# Altium footprint library Micius.PcbLib: 19 footprints (part 2 of 2)
Each footprint in its own frame and in the unit in brackets; x right, y up, seen from the top. Pads: shape width x height; smd on the part's side, far side on the other; paste and mask are expansions set on the pad; w line width, h text height; cw(c..) or ccw(c..) is an arc to the next point about the centre after c.
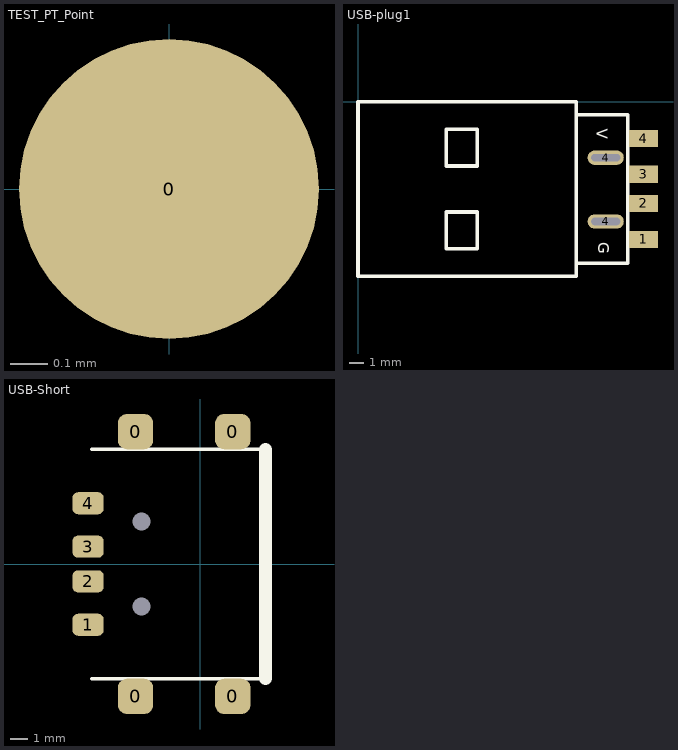
[diagram p1: the footprints below, top view; thin cyan lines are the x and y axes]

## TEST_PT_Point [mil]
height 169.29
pads (1):
  rrect100% 32x32 smd rot 60: 0(0,0.01)

## USB-plug1 [mm]
height 0.8
pads (6):
  rect 2x1.2 smd: 1(19.761,-9.525) 2(19.761,-7.036) 3(19.761,-5.004) 4(19.761,-2.54)
  oval 2.5x1 hole 0.5 slot 2 at 0 deg: 4(17.145,-8.28) 4(17.145,-3.861)
Top Overlay:
  lines w0.254: 0,-12.065 0,0 15.113,0 15.113,-4.191 15.113,-12.065 0,-12.065 ; 6.096,-10.16 6.096,-7.62 8.255,-7.62 8.255,-10.16 6.096,-10.16 ; 6.096,-4.445 8.255,-4.445 8.255,-1.905 6.096,-1.905 6.096,-4.445 ; 15.113,-11.176 15.113,-10.033 15.113,-0.889 18.669,-0.889 18.669,-11.176 15.113,-11.176
  text "G" at 16.612,-9.728 h0.76
  text "V" at 16.535,-1.854 h0.76
Keep-Out Layer:
  lines w0.051: 16.154,-4.089 18.085,-4.089 18.085,-3.581 17.932,-3.581 16.383,-3.581 16.154,-3.581 16.154,-4.089 ; 16.205,-8.509 16.205,-8.001 16.434,-8.001 17.983,-8.001 18.136,-8.001 18.136,-8.509 16.205,-8.509
3D body "User Library-usbap-1p.step": height 2.22, standoff -2.27, extent 0.211,-12.076 20.211,-0.076

## USB-Short [mm]
pads (10):
  rrect50% 2.032x2.032 smd: 0(-3.738,-7.625) 0(-3.738,7.625) 0(1.862,-7.625) 0(1.862,7.625)
  rrect50% 1.8x1.27 smd: 1(-6.476,-3.5) 2(-6.476,-1) 3(-6.476,1) 4(-6.476,3.5)
  round 0.6 hole 1.016 unplated: MH1(-3.4,2.45) MH2(-3.4,-2.45)
Top Overlay:
  lines w0.2: -6.25,-6.6 -0.6,-6.6 3.75,-6.6 ; -6.25,6.6 -0.6,6.6 3.75,6.6
  lines w0.762: 3.75,-6.6 3.75,6.6
3D body "1.stp": height 6.4, standoff -0.1, extent -7.252,-8.618 3.81,8.618